# Altium schematic symbol library 78L05.SchLib: 1 symbol
Pins are listed as number, name and electrical type; pins without a type are passive.

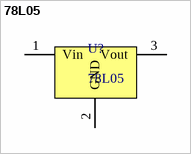
[diagram p0: symbol 78L05]

## 78L05
designator U?
pins: 1 Vin, 2 GND, 3 Vout